# Altium schematic symbol library 2227595-1.SchLib: 1 symbol
Pins are listed as number, name and electrical type; pins without a type are passive.

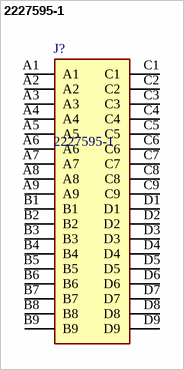
[diagram p0: symbol 2227595-1]

## 2227595-1
designator J?
I/O Connectors 1X1 VERT ASSY, MINI SAS HD INTERNAL; Manufacturer_Name: TE Connectivity; Geometry.Height: 14.2mm; Manufacturer_Part_Number: 2227595-1; Mouser Part Number: 571-2227595-1; Mouser Price/Stock: https://www.mouser.co.uk/ProductDetail/TE-Connectivity/2227595-1?qs=ZH26iPUykMX7%2FUCsNC121Q%3D%3D; Arrow Part Number: *; Arrow Price/Stock: *; Datasheet Link: http://www.te.com/commerce/DocumentDelivery/DDEController?Action=srchrtrv&DocNm=2227595&DocType=Customer+Drawing&DocLang=English
footprint 22275951
pins: A1, A2, A3, A4, A5, A6, A7, A8, A9, B1, B2, B3, B4, B5, B6, B7, B8, B9, C1, C2, C3, C4, C5, C6, C7, C8, C9, D1, D2, D3, D4, D5, D6, D7, D8, D9